# Altium footprint library NDK America.PcbLib: 1 footprints
Each footprint in its own frame and in the unit in brackets; x right, y up, seen from the top. Pads: shape width x height; smd on the part's side, far side on the other; paste and mask are expansions set on the pad; w line width, h text height; cw(c..) or ccw(c..) is an arc to the next point about the centre after c.
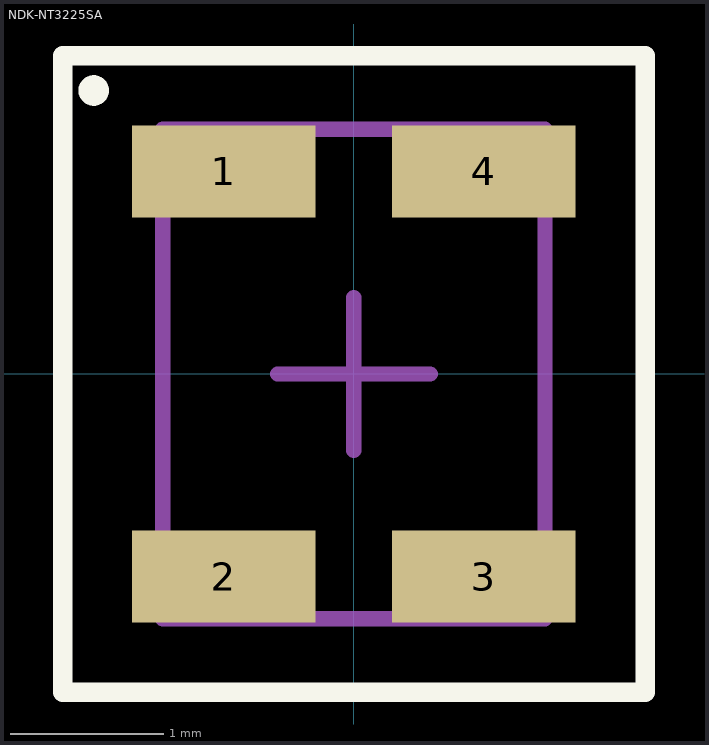
[diagram p0: the footprint, top view; thin cyan lines are the x and y axes]

## NDK-NT3225SA [mm] "4-SMD, No Lead, 0.126\" L x 0.098\" W x 0.039\" H (3.20mm x 2.50mm x 1.00mm)"
height 1
pads (4):
  rect 1.2x0.6 smd: 1(-0.85,1.325) 2(-0.85,-1.325) 3(0.85,-1.325) 4(0.85,1.325)
Top Overlay:
  circle w0.1: c-1.701,1.854 r0.05
  lines w0.127: -1.905,-2.081 1.907,-2.081 1.907,2.081 -1.905,2.081 -1.905,-2.081
Mechanical 13:
  lines w0.1: -1.25,-1.6 1.25,-1.6 1.25,1.6 -1.25,1.6 -1.25,-1.6
Mechanical 15:
  lines w0.1: -0.5,0 0.5,0 ; 0,-0.5 0,0.5
3D body "User Library-User Library-Siward_SX3225.STEP": height 0.81, standoff 0, extent -1.25,-1.6 1.25,1.6